# Altium schematic symbol library Schlib1.SchLib: 1 symbol
Pins are listed as number, name and electrical type; pins without a type are passive.

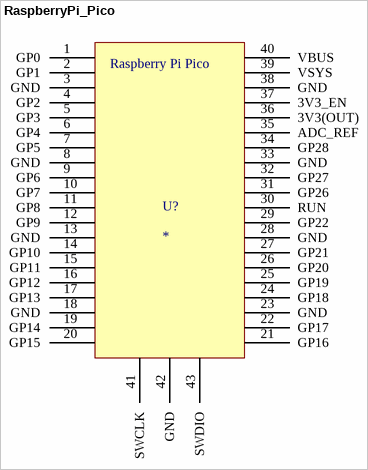
[diagram p0: symbol RaspberryPi_Pico]

## RaspberryPi_Pico
designator U?
footprint PiPico_Holes
pins: 1 GP0, 2 GP1, 3 GND, 4 GP2, 5 GP3, 6 GP4, 7 GP5, 8 GND, 9 GP6, 10 GP7, 11 GP8, 12 GP9, 13 GND, 14 GP10, 15 GP11, 16 GP12, 17 GP13, 18 GND, 19 GP14, 20 GP15, 21 GP16, 22 GP17, 23 GND, 24 GP18, 25 GP19, 26 GP20, 27 GP21, 28 GND, 29 GP22, 30 RUN, 31 GP26, 32 GP27, 33 GND, 34 GP28, 35 ADC_REF, 36 3V3(OUT), 37 3V3_EN, 38 GND, 39 VSYS, 40 VBUS, 41 SWCLK, 42 GND, 43 SWDIO
text: Raspberry Pi Pico